# Altium schematic symbol library ECG_BLE.SchLib: 19 symbols
Pins are listed as number, name and electrical type; pins without a type are passive.

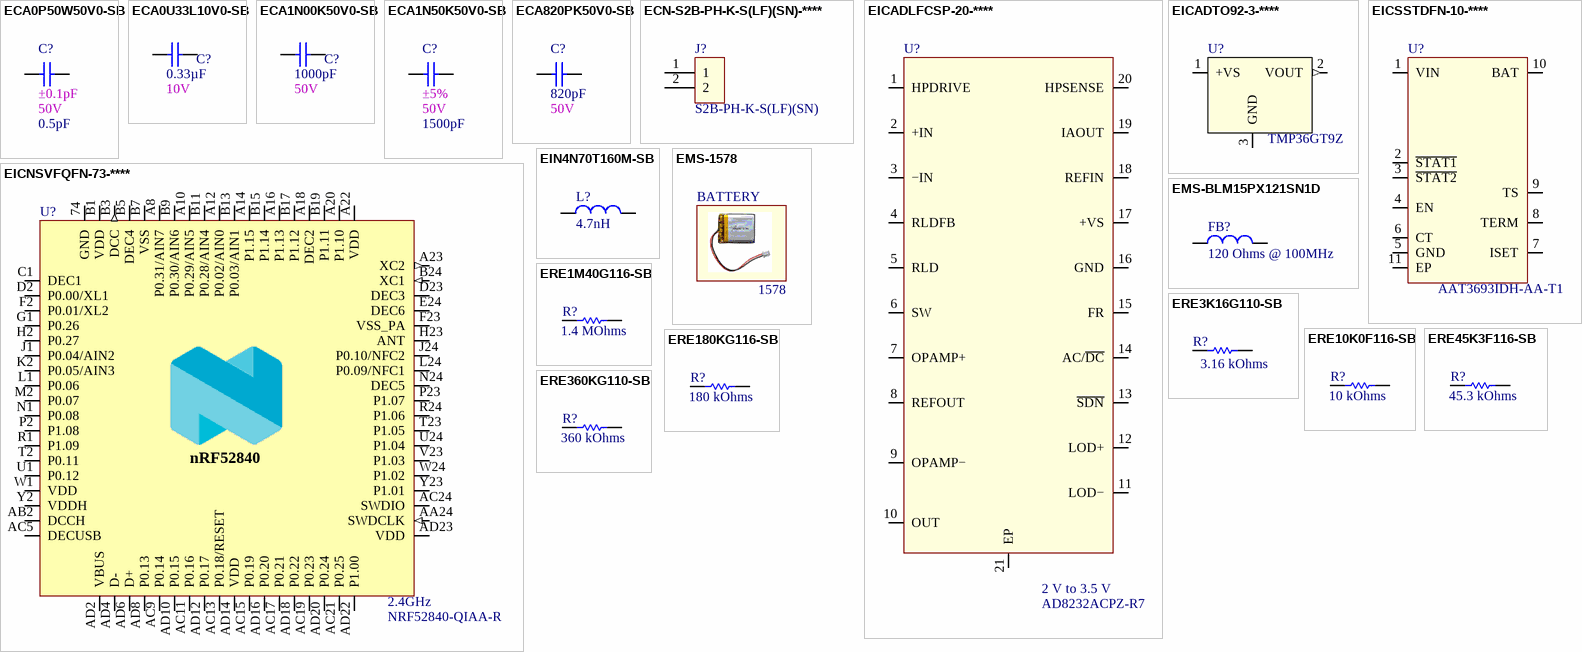
[diagram p0: symbols ECA0P50W50V0-SB to ERE360KG110-SB]

## ECA0P50W50V0-SB
designator C?, comment value 0.5pF  2nd Auxiliary Field: ±0.1pF  1st Auxiliary Field: 50V  (hidden comment: CAP CER 0.5PF 50V C0G/NP0 0402)
Manufacturer: Murata Electronics; Vendor Part Number: 490-6077-1-ND; Manufacturer Part Number: GJM1555C1HR50BB01D; Internal Part Number: ECA0P50W50V0-SB; Vendor Name: Digi-Key; 3rd Auxiliary Field: ROHS3 Compliant; Component Height (mm): 0.55mm; Temp Co: -55°C ~ 125°C; Part Type: CAP CER 0.5PF 50V C0G/NP0 0402; 4th Auxiliary Field: *
footprint SMDC0402 (Footprint not found)
pins: 1, 2

## ECA0U33L10V0-SB
designator C?, comment value 0.33µF  1st Auxiliary Field: 10V  (hidden comment: CAP CER 0.33UF 10V X5R 0402)
Manufacturer: Samsung Electro-Mechanics; Manufacturer Part Number: CL05A334KP5NNNC; Internal Part Number: ECA0U33L10V0-SB; Vendor Part Number: 1276-6665-1-ND; Temp Co: -55°C ~ 85°C; 3rd Auxiliary Field: ROHS3 Compliant; Component Height (mm): 0.55mm; Vendor Name: Digi-Key; 2nd Auxiliary Field: ±10%; Part Type: CAP CER 0.33UF 10V X5R 0402; 4th Auxiliary Field: *
footprint SMDC0402
pins: 1, 2

## ECA1N00K50V0-SB
designator C?, comment value 1000pF  1st Auxiliary Field: 50V  (hidden comment: CAP CER 1000PF 50V X7R 0402)
Manufacturer: KEMET; Manufacturer Part Number: C0402C102J5RACTU; Internal Part Number: ECA1N00K50V0-SB; Vendor Part Number: 399-7754-1-ND; Temp Co: -55°C ~ 125°C; 3rd Auxiliary Field: ROHS3 Compliant; Component Height (mm): 0.55mm; Vendor Name: Digi-Key; 2nd Auxiliary Field: ±5%; Part Type: CAP CER 1000PF 50V X7R 0402; 4th Auxiliary Field: *
footprint SMDC0402
pins: 1, 2

## ECA1N50K50V0-SB
designator C?, comment value 1500pF  2nd Auxiliary Field: ±5%  1st Auxiliary Field: 50V  (hidden comment: CAP CER 1500PF 50V X7R 0402)
Manufacturer: Yageo; Vendor Part Number: 311-3763-1-ND; Manufacturer Part Number: CC0402JRX7R9BB152; Internal Part Number: ECA1N50K50V0-SB; Vendor Name: Digi-Key; 3rd Auxiliary Field: ROHS3 Compliant; Component Height (mm): 0.55mm; Temp Co: -55°C ~ 125°C; Part Type: CAP CER 1500PF 50V X7R 0402; 4th Auxiliary Field: *
footprint SMDC0402 (Footprint not found)
pins: 1, 2

## ECA820PK50V0-SB
designator C?, comment value 820pF  1st Auxiliary Field: 50V  (hidden comment: CAP CER 820PF 50V C0G/NP0 0402)
Manufacturer: Samsung Electro-Mechanics; Manufacturer Part Number: CL05C821JB5NNNC; Internal Part Number: ECA820PK50V0-SB; Vendor Part Number: 1276-1727-1-ND; Temp Co: -55°C ~ 125°C; 3rd Auxiliary Field: ROHS3 Compliant; Component Height (mm): 0.55mm; Vendor Name: Digi-Key; 2nd Auxiliary Field: ±5%; Part Type: CAP CER 820PF 50V C0G/NP0 0402; 4th Auxiliary Field: *
footprint SMDC0402
pins: 1, 2

## ECN-S2B-PH-K-S(LF)(SN)-****
designator J?, comment value S2B-PH-K-S(LF)(SN)  (hidden comment: CONN HEADER R/A 2POS 2MM)
Internal Part Number: ECN-S2B-PH-K-S(LF)(SN)-****; Manufacturer: JST Sales America Inc.; Vendor Part Number: 455-1719-ND; 2nd Auxiliary Field: 2.00mm; 3rd Auxiliary Field: RoHS Compliant; Component Height (mm): 4.80mm; Temp Co: -25°C ~ 85°C; Vendor Name: Digi-Key; 1st Auxiliary Field: 2; 4th Auxiliary Field: *; Part Type: CONN HEADER R/A 2POS 2MM; Manufacturer Part Number: S2B-PH-K-S(LF)(SN)
pins: 1, 2

## EICADLFCSP-20-****
designator U?, comment value AD8232ACPZ-R7  1st Auxiliary Field: 2 V to 3.5 V  (hidden comment: Analog Front End - AFE ECG and HRM IC Single Lead)
Internal Part Number: EICADLFCSP-20-****; Manufacturer: Analog Devices; Vendor Part Number: 584-AD8232ACPZ-R7; 2nd Auxiliary Field: 170 uA; 3rd Auxiliary Field: RoHS Compliant; Component Height (mm): 0.73 mm; Temp Co: -40°C ~ 85°C; Vendor Name: Mouser; 4th Auxiliary Field: *; Part Type: Analog Front End - AFE ECG and HRM IC Single Lead; Manufacturer Part Number: AD8232ACPZ-R7
pins: 1 HPDRIVE, 2 +IN, 3 −IN, 4 RLDFB, 5 RLD, 6 SW, 7 OPAMP+, 8 REFOUT, 9 OPAMP−, 10 OUT, 11 LOD−, 12 LOD+, 13 ~{SDN}, 14 AC/~{DC}, 15 FR, 16 GND, 17 +VS, 18 REFIN, 19 IAOUT, 20 HPSENSE, 21 EP

## EICADTO92-3-****
designator U?, comment value TMP36GT9Z  (hidden comment: SENSOR ANALOG -40C-125C TO92-3)
Internal Part Number: EICADTO92-3-****; Manufacturer: Analog Devices Inc.; Vendor Part Number: TMP36GT9Z-ND; 2nd Auxiliary Field: 10mV/°C; 3rd Auxiliary Field: RoHS Compliant; Component Height (mm): 18.03mm; Temp Co: 25°C (-40°C ~ 125°C); Vendor Name: Digi-Key; 1st Auxiliary Field: 2.7V ~ 5.5V; 4th Auxiliary Field: *; Part Type: SENSOR ANALOG -40C-125C TO92-3; Manufacturer Part Number: TMP36GT9Z
pins: 1 +VS (power), 2 VOUT (out), 3 GND (power)

## EICNSVFQFN-73-****
designator U?, comment value NRF52840-QIAA-R  1st Auxiliary Field: 2.4GHz  (hidden comment: IC RF TXRX+MCU 802.15.4 73VFQFN)
Internal Part Number: EICNSVFQFN-73-****; Manufacturer: Nordic Semiconductor ASA; Vendor Part Number: 1490-1071-1-ND; 2nd Auxiliary Field: 1.7V ~ 5.5V; 3rd Auxiliary Field: RoHS Compliant; 4th Auxiliary Field: 2Mbps; Component Height (mm): 0.85mm; Temp Co: -40°C ~ 85°C; Vendor Name: Digi-Key; Part Type: IC RF TXRX+MCU 802.15.4 73VFQFN; Manufacturer Part Number: NRF52840-QIAA-R
footprint AQFN50P700X700X85_HS-74N (Footprint not found)
pins: 74 GND, A8 P0.31/AIN7 (io), A10 P0.29/AIN5 (io), A12 P0.02/AIN0 (io), A14 P1.15 (io), A16 P1.13 (io), A18 DEC2 (power), A20 P1.10 (io), A22 VDD (power), A23 XC2 (out), AA24 SWDCLK (in), AB2 DCCH (power), AC5 DECUSB (power), AC9 P0.14 (io), AC11 P0.16 (io), AC13 P0.18/RESET (io), AC15 P0.19 (io), AC17 P0.21 (io), AC19 P0.23 (io), AC21 P0.25 (io), AC24 SWDIO (io), AD2 VBUS (power), AD4 D- (io), AD6 D+ (io), AD8 P0.13 (io), AD10 P0.15 (io), AD12 P0.17 (io), AD14 VDD (power), AD16 P0.20 (io), AD18 P0.22 (io), AD20 P0.24 (io), AD22 P1.00 (io), AD23 VDD (power), B1 VDD (power), B3 DCC (out), B5 DEC4 (power), B7 VSS (power), B9 P0.30/AIN6 (io), B11 P0.28/AIN4 (io), B13 P0.03/AIN1 (io), B15 P1.14 (io), B17 P1.12 (io), B19 P1.11 (io), B24 XC1 (in), C1 DEC1 (power), D2 P0.00/XL1 (io), D23 DEC3 (power), E24 DEC6 (power), F2 P0.01/XL2 (io), F23 VSS_PA (power), G1 P0.26 (io), H2 P0.27 (io), H23 ANT (io), J1 P0.04/AIN2 (io), J24 P0.10/NFC2 (io), K2 P0.05/AIN3 (io), L1 P0.06 (io), L24 P0.09/NFC1 (io), M2 P0.07 (io), N1 P0.08 (io), N24 DEC5 (power), P2 P1.08 (io), P23 P1.07 (io), R1 P1.09 (io), R24 P1.06 (io), T2 P0.11 (io), T23 P1.05 (io), U1 P0.12 (io), U24 P1.04 (io), V23 P1.03 (io), W1 VDD (power), W24 P1.02 (io), Y2 VDDH (power), Y23 P1.01 (io)
text: nRF52840

## EICSSTDFN-10-****
designator U?, comment value AAT3693IDH-AA-T1  (hidden comment: 1.6A LINEAR LI-ION CHGR 10TDFN)
Internal Part Number: EICSSTDFN-10-****; Manufacturer: Skyworks Solutions Inc.; Vendor Part Number: 863-1512-1-ND; 3rd Auxiliary Field: RoHS Compliant; Component Height (mm): 0.8mm; Temp Co: -40°C ~ 85°C (TA); Vendor Name: Digi-Key; 1st Auxiliary Field: 7.5V; 2nd Auxiliary Field: 1.6A; 4th Auxiliary Field: *; Part Type: 1.6A LINEAR LI-ION CHGR 10TDFN; Manufacturer Part Number: AAT3693IDH-AA-T1
footprint SON40P220X220X80-11N (1.6A LINEAR LI-ION CHGR 10TDFN)
pins: 1 VIN, 2 ~{STAT1}, 3 ~{STAT2}, 4 EN, 5 GND, 6 CT, 7 ISET, 8 TERM, 9 TS, 10 BAT, 11 EP

## EIN4N70T160M-SB
designator L?, comment value 4.7nH  (hidden comment: FIXED IND 4.7NH 160MA 600 MOHM)
Manufacturer Part Number: LQP15MN4N7B02D; Manufacturer: Murata Electronics; Internal Part Number: EIN4N70T160M-SB; Vendor Part Number: 490-1132-1-ND; 3rd Auxiliary Field: ROHS3 Compliant; Component Height (mm): 0.45mm; Temp Co: -40°C ~ 85°C; Vendor Name: Digi-Key; 2nd Auxiliary Field: 600mOhm Max; Part Type: FIXED IND 4.7NH 160MA 600 MOHM; 4th Auxiliary Field: *; 1st Auxiliary Field: 160mA
footprint SMDL0402
pins: 1, 2

## EMS-1578
designator BATTERY, comment value 1578  (hidden comment: BATTERY LITHIUM 3.7V 500MAH)  (net tie)
Manufacturer: Adafruit Industries LLC; Vendor Part Number: 1528-1841-ND; 3rd Auxiliary Field: RoHS Compliant; 4th Auxiliary Field: 503035; Component Height (mm): 4.8mm; Vendor Name: Digi-Key; 2nd Auxiliary Field: 500mAh; Internal Part Number: EMS-1578; Part Type: BATTERY LITHIUM 3.7V 500MAH; Temp Co: *; Manufacturer Part Number: 1578; 1st Auxiliary Field: 3.7V

## EMS-BLM15PX121SN1D
designator FB?, comment value 120 Ohms @ 100MHz  (hidden comment: FERRITE BEAD 120 OHM 0402 1LN)
Manufacturer Part Number: BLM15PX121SN1D; Manufacturer: Murata Electronics; Internal Part Number: EMS-BLM15PX121SN1D; Vendor Part Number: 490-9656-1-ND; 3rd Auxiliary Field: ROHS3 Compliant; Component Height (mm): 0.55mm; Temp Co: -55°C ~ 125°C; Vendor Name: Digi-Key; 2nd Auxiliary Field: 55mOhm; 1st Auxiliary Field: 2A; Part Type: FERRITE BEAD 120 OHM 0402 1LN; 4th Auxiliary Field: *
footprint SMDL0402
pins: 1, 2

## ERE1M40G116-SB
designator R?, comment value 1.4 MOhms  (hidden comment: RES 1.4M OHM 1% 1/16W 0402)
Manufacturer: Stackpole Electronics Inc; Vendor Part Number: RMCF0402FT1M40CT-ND; Manufacturer Part Number: RMCF0402FT1M40; Internal Part Number: ERE1M40G116-SB; Vendor Name: Digi-Key; 3rd Auxiliary Field: ROHS3 Compliant; Component Height (mm): 0.40mm; Temp Co: -55°C ~ 155°C; 1st Auxiliary Field: 0.063W, 1/16W; Part Type: RES 1.4M OHM 1% 1/16W 0402; 4th Auxiliary Field: *; 2nd Auxiliary Field: ±1%
footprint SMDR0402
pins: 1, 2

## ERE3K16G110-SB
designator R?, comment value 3.16 kOhms  (hidden comment: RES 3.16K OHM 1% 1/10W 0402)
Manufacturer: KOA Speer Electronics, Inc.; Internal Part Number: ERE3K16G110-SB; Manufacturer Part Number: RK73H1ETTP3161F; Vendor Part Number: 2019-RK73H1ETTP3161FCT-ND; Component Height (mm): 0.40mm; 3rd Auxiliary Field: ROHS3 Compliant; Vendor Name: Digi-Key; Temp Co: -55°C ~ 155°C; 1st Auxiliary Field: 0.1W, 1/10W; Part Type: RES 3.16K OHM 1% 1/10W 0402; 4th Auxiliary Field: *; 2nd Auxiliary Field: ±1%
footprint SMDR0402
pins: 1, 2

## ERE10K0F116-SB
designator R?, comment value 10 kOhms  (hidden comment: RES SMD 10K OHM 0.5% 1/16W 0402)
Manufacturer: Panasonic Electronic Components; Vendor Part Number: P15984CT-ND; Manufacturer Part Number: ERJ-2RHD1002X; Internal Part Number: ERE10K0F116-SB; Vendor Name: Digi-Key; 3rd Auxiliary Field: ROHS3 Compliant; Component Height (mm): 0.40mm; Temp Co: -55°C ~ 155°C; 1st Auxiliary Field: 0.063W, 1/16W; Part Type: RES SMD 10K OHM 0.5% 1/16W 0402; 4th Auxiliary Field: *; 2nd Auxiliary Field: ±0.5%
footprint SMDR0402
pins: 1, 2

## ERE45K3F116-SB
designator R?, comment value 45.3 kOhms  (hidden comment: RES 45.3K OHM 0.5% 1/16W 0402)
Manufacturer: Stackpole Electronics Inc; Vendor Part Number: RNCF0402DTE45K3CT-ND; Manufacturer Part Number: RNCF0402DTE45K3; Internal Part Number: ERE45K3F116-SB; Vendor Name: Digi-Key; 3rd Auxiliary Field: ROHS3 Compliant; Component Height (mm): 0.35mm; Temp Co: -55°C ~ 155°C; 1st Auxiliary Field: 0.063W, 1/16W; Part Type: RES 45.3K OHM 0.5% 1/16W 0402; 4th Auxiliary Field: *; 2nd Auxiliary Field: ±0.5%
footprint SMDR0402
pins: 1, 2

## ERE180KG116-SB
designator R?, comment value 180 kOhms  (hidden comment: RES SMD 180K OHM 1% 1/16W 0402)
Manufacturer: Yageo; Vendor Part Number: 311-180KLRCT-ND; Manufacturer Part Number: RC0402FR-07180KL; Internal Part Number: ERE180KG116-SB; Vendor Name: Digi-Key; 3rd Auxiliary Field: ROHS3 Compliant; Component Height (mm): 0.40mm; Temp Co: -55°C ~ 155°C; 1st Auxiliary Field: 0.063W, 1/16W; Part Type: RES SMD 180K OHM 1% 1/16W 0402; 4th Auxiliary Field: *; 2nd Auxiliary Field: ±1%
footprint SMDR0402
pins: 1, 2

## ERE360KG110-SB
designator R?, comment value 360 kOhms  (hidden comment: RES SMD 360K OHM 1% 1/10W 0402)
Manufacturer: Panasonic Electronic Components; Vendor Part Number: P360KLCT-ND; Manufacturer Part Number: ERJ-2RKF3603X; Internal Part Number: ERE360KG110-SB; Vendor Name: Digi-Key; 3rd Auxiliary Field: ROHS3 Compliant; Component Height (mm): 0.40mm; Temp Co: -55°C ~ 155°C; 1st Auxiliary Field: 0.1W, 1/10W; Part Type: RES SMD 360K OHM 1% 1/10W 0402; 4th Auxiliary Field: *; 2nd Auxiliary Field: ±1%
footprint SMDR0402
pins: 1, 2